# Altium footprint library LLP-6.PcbLib: 1 footprints
Each footprint in its own frame and in the unit in brackets; x right, y up, seen from the top. Pads: shape width x height; smd on the part's side, far side on the other; paste and mask are expansions set on the pad; w line width, h text height; cw(c..) or ccw(c..) is an arc to the next point about the centre after c.
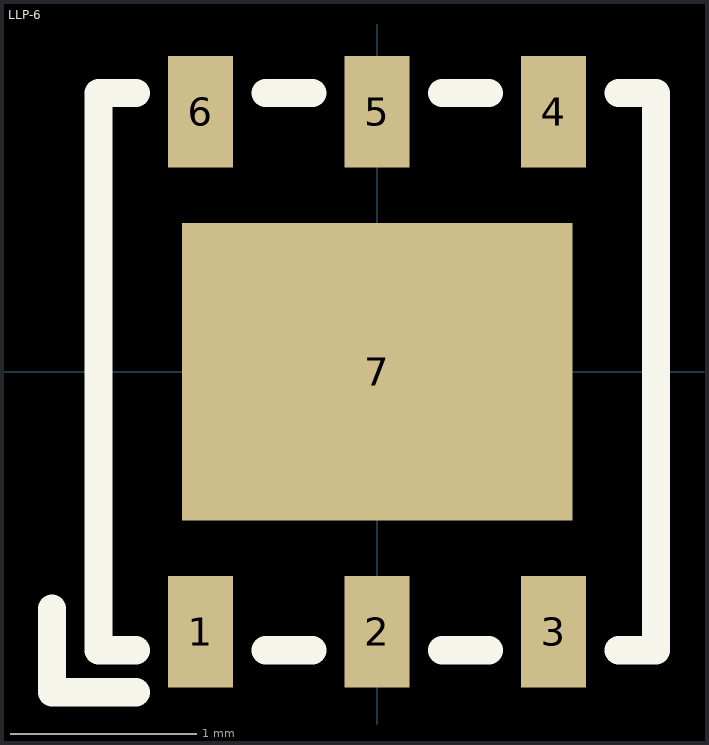
[diagram p0: the footprint, top view; thin cyan lines are the x and y axes]

## LLP-6 [mm] "LLP (6-lead) (National LP38692)"
height 0.8
pads (7):
  rect 0.35x0.6 smd: 1(-0.95,-1.4) 2(0,-1.4) 3(0.95,-1.4) 4(0.95,1.4) 5(0,1.4) 6(-0.95,1.4)
  rect 2.1x1.6 smd paste-12: 7(0,0)
Top Overlay:
  lines w0.152: -1.75,-1.275 -1.75,-1.725 -1.3,-1.725 ; -1.3,-1.5 -1.5,-1.5 -1.5,1.5 -1.3,1.5 ; -0.6,-1.5 -0.35,-1.5 ; -0.6,1.5 -0.35,1.5 ; 0.35,-1.5 0.6,-1.5 ; 0.35,1.5 0.6,1.5 ; 1.3,-1.5 1.5,-1.5 1.5,1.5 1.3,1.5
Top Paste:
  rectangle: 0.2,0.1 0.9,0.7
  rectangle: 0.2,-0.7 0.9,-0.1
  rectangle: -0.9,-0.7 -0.2,-0.1
  rectangle: -0.9,0.1 -0.2,0.7
3D body: height 0.8, standoff 0.01, extent -1.5,-1.5 1.5,1.5